# EAGLE library part BUCK_REGULATORS (library eDNA)
SOT23-6, has ECO mode and shutdown function. ECO mode allow the regulator to drop quiescent current when output draw is below 80mAa https://www.digikey.com/product-detail/en/texas-instruments/LMR16006YQ5DDCRQ1/296-42515-6-ND/5416052
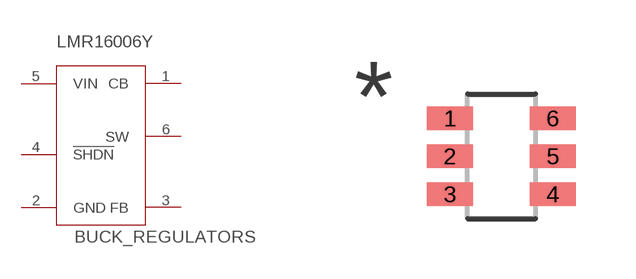
[diagram p16: symbol with the pads of SOT23-6; footprint SOT23-6]

Designator prefix -

## BUCK_REGULATORS  [SOT23-6]
1  CB
2  GND
3  FB
4  !SHDN
5  VIN
6  SW

## Footprint SOT23-6 (pad centres in mm)
6-SOT23, 0.95 mm pitch, 2.85 mm span, 2.55 X 1.60 X 1.30 mm body 6-pin SOT23 package with 0.95 mm pitch, 2.85 mm span with body size 2.55 X 1.60 X 1.30 mm
smd 1.146 x 0.597: 1 -1.287,0.95; 2 -1.287,0; 3 -1.287,-0.95; 4 1.287,-0.95; 5 1.287,0; 6 1.287,0.95